# EAGLE library part KGM-BLUETOOTH (library sf-keyglovekit)
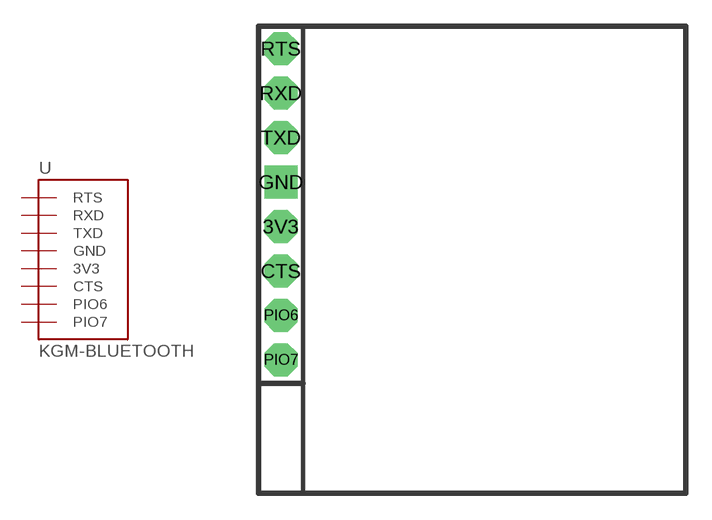
[diagram p8: symbol with the pads of KGM-BLUETOOTH; footprint KGM-BLUETOOTH]

Designator prefix U

## KGM-BLUETOOTH  [KGM-BLUETOOTH]
3V3  3V3  pwr
CTS  CTS  in
GND  GND  pwr
PIO6  PIO6
PIO7  PIO7
RTS  RTS  out
RXD  RXD  in
TXD  TXD  out

## Footprint KGM-BLUETOOTH (pad centres in mm)
drill 1.016 pad 1.88 octagon: 3V3 1.27,15.24; CTS 1.27,12.7; PIO6 1.27,10.16; PIO7 1.27,7.62; RTS 1.27,25.4; RXD 1.27,22.86; TXD 1.27,20.32
drill 1.016 pad 1.88 square: GND 1.27,17.78